# EAGLE library part ETRX35X (library BERGCloud-OSH)
Telegesis ETRX35X Zigbee module <http://www.telegesis.com/product_range_overview/etrx3_zigbee_module.htm> Created by AH. BERG Cloud <http://www.bergcloud.com>
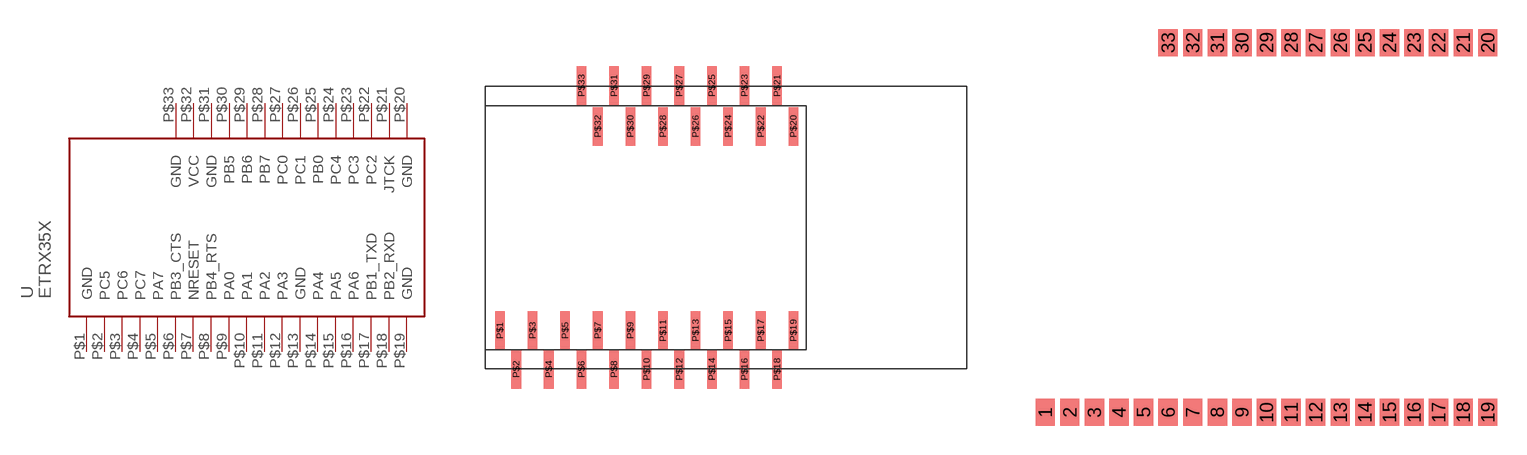
[diagram p1: symbol with the pads of ETRX35X_CARRIERMODULESMD; footprints ETRX35X_CARRIERMODULESMD, ETRX35XSMD]

Designator prefix -

## ETRX35XCARRIER-SMD  [ETRX35X_CARRIERMODULESMD]
P$1  GND  sup
P$2  PC5
P$3  PC6
P$4  PC7
P$5  PA7
P$6  PB3_CTS
P$7  NRESET
P$8  PB4_RTS
P$9  PA0
P$10  PA1
P$11  PA2
P$12  PA3
P$13  GND  sup
P$14  PA4
P$15  PA5
P$16  PA6
P$17  PB1_TXD  out
P$18  PB2_RXD  in
P$19  GND  sup
P$20  GND  sup
P$21  JTCK
P$22  PC2
P$23  PC3
P$24  PC4
P$25  PB0
P$26  PC1
P$27  PC0
P$28  PB7
P$29  PB6
P$30  PB5
P$31  GND  sup
P$32  VCC  sup
P$33  GND  sup

## ETRX35XMODULE-SMD  [ETRX35XSMD]
1  GND  sup
2  PC5
3  PC6
4  PC7
5  PA7
6  PB3_CTS
7  NRESET
8  PB4_RTS
9  PA0
10  PA1
11  PA2
12  PA3
13  GND  sup
14  PA4
15  PA5
16  PA6
17  PB1_TXD  out
18  PB2_RXD  in
19  GND  sup
20  GND  sup
21  JTCK
22  PC2
23  PC3
24  PC4
25  PB0
26  PC1
27  PC0
28  PB7
29  PB6
30  PB5
31  GND  sup
32  VCC  sup
33  GND  sup

## Footprint ETRX35X_CARRIERMODULESMD (pad centres in mm)
Telegesis ETRX35X Zigbee module <http://www.telegesis.com/product_range_overview/etrx3_zigbee_module.htm> as placed on a carrier board, supplied with the Telegesis development kit and older Ember EM357 development kits. Created by AH. BERG Cloud <http://www.bergcloud.com>
smd 0.75 x 3: P$1 -22.86,1.5; P$2 -21.59,-1.524; P$3 -20.32,1.5; P$4 -19.05,-1.524; P$5 -17.78,1.5; P$6 -16.51,-1.524; P$7 -15.24,1.5; P$8 -13.97,-1.524; P$9 -12.7,1.5; P$10 -11.43,-1.524; P$11 -10.16,1.5; P$12 -8.89,-1.524; P$13 -7.62,1.5; P$14 -6.35,-1.524; P$15 -5.08,1.5; P$16 -3.81,-1.524; P$17 -2.54,1.5; P$18 -1.27,-1.524; P$19 0,1.5; P$20 0,17.399; P$21 -1.27,20.574; P$22 -2.54,17.399; P$23 -3.81,20.574; P$24 -5.08,17.399; P$25 -6.35,20.574; P$26 -7.62,17.399; P$27 -8.89,20.574; P$28 -10.16,17.399; P$29 -11.43,20.574; P$30 -12.7,17.399; P$31 -13.97,20.574; P$32 -15.24,17.399; P$33 -16.51,20.574

## Footprint ETRX35XSMD (pad centres in mm)
Telegesis ETRX35X Zigbee module <http://www.telegesis.com/product_range_overview/etrx3_zigbee_module.htm> Created by AH. BERG Cloud <http://www.bergcloud.com>
smd 1 x 1.4: 1 -10.75,-9.55; 2 -9.48,-9.55; 3 -8.21,-9.55; 4 -6.94,-9.55; 5 -5.67,-9.55; 6 -4.4,-9.55; 7 -3.13,-9.55; 8 -1.86,-9.55; 9 -0.59,-9.55; 10 0.68,-9.55; 11 1.95,-9.55; 12 3.22,-9.55; 13 4.49,-9.55; 14 5.76,-9.55; 15 7.03,-9.55; 16 8.3,-9.55; 17 9.57,-9.55; 18 10.84,-9.55; 19 12.11,-9.55; 20 12.11,9.55; 21 10.84,9.55; 22 9.57,9.55; 23 8.3,9.55; 24 7.03,9.55; 25 5.76,9.55; 26 4.49,9.55; 27 3.22,9.55; 28 1.95,9.55; 29 0.68,9.55; 30 -0.59,9.55; 31 -1.86,9.55; 32 -3.13,9.55; 33 -4.4,9.55